# EAGLE library part AP34063 (library NBitWonder)
AP34063 Universal DC/DC Converter IC IC Manufactured by Diodes, Inc. For more information, see http://www.diodes.com/datasheets/AP34063.pdf
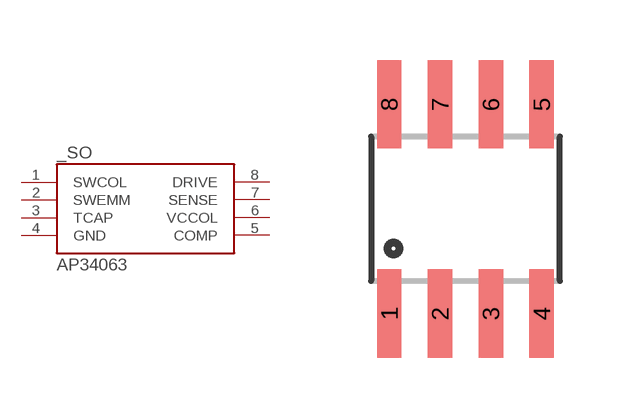
[diagram p22: symbol with the pads of SOIC8; footprint SOIC8]

Designator prefix _SO

## AP34063  [SOIC8]
1  SWCOL
2  SWEMM
3  TCAP
4  GND
5  COMP
6  VCCOL
7  SENSE
8  DRIVE

## Footprint SOIC8 (pad centres in mm)
smd 0.61 x 2.21: 1 -1.905,-2.616; 2 -0.635,-2.616; 3 0.635,-2.616; 4 1.905,-2.616; 5 1.905,2.616; 6 0.635,2.616; 7 -0.635,2.616; 8 -1.905,2.616